# Altium schematic symbol library Fixed Inductors.SchLib: 4 symbols
Pins are listed as number, name and electrical type; pins without a type are passive.

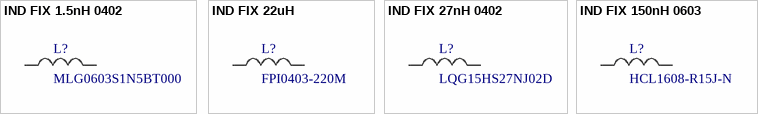
[diagram p0: symbols IND FIX 1.5nH 0402 to IND FIX 150nH 0603]

## IND FIX 1.5nH 0402
designator L?, comment MLG0603S1N5BT000
MLG Series 0201 1.5 nH 550 mA 150 mOhm Unshielded Multilayer Inductor; Manufacturer: TDK; Designed: Ferdi; Supplier 1: Mouser; Manufacturer Part Number: MLG0603S1N5BT000; RoHS: Yes; Category: Fixed Inductors; Stock 1: 14419; Pricing 1: 1=0,1, 10=0,066, 50=0,066, 100=0,045, 1000=0,029, 10000=0,025 (USD); ComponentLink1URL: https://product.tdk.com/info/en/catalog/datasheets/inductor_commercial_high-frequency_mlg0603s_en.pdf?ref_disty=digikey&src-supplier=Digi-Key; ComponentLink1Description: https://product.tdk.com/info/en/catalog/datasheets/inductor_commercial_high-frequency_mlg0603s_en.pdf?ref_disty=digikey&src-supplier=Digi-Key; Supplier Part Number 1: 810-MLG0603S1N5BT000
footprint L0402 (Inducatır 0402 Package)
pins: 1 A, 2 B

## IND FIX 22uH
designator L?, comment FPI0403-220M
INDUCTOR POWER 22UH 4.5X4X3.2MM SMD; Manufacturer: CORE MASTER; DC Resistance (DCR): 350m Ohms; Tolerance: ±20%; Current: 1A; Shielding: UNSHIELDED; Pitch: NONE; ComponentLink1Description: Datasheet; ComponentLink1URL: https://cdn.ozdisan.com/ETicaret_Dosya/487972_6039147.pdf; Packaging: TAPE&REEL; Rohs: ROHS; Applications: General Purpose; Dimensions (mm) LxWxH: 4.50x4.00x3.20; Inductance: 22uH; Technology: POWER; Package / Case: NONSTANDARD; Mounting Type: SMT; Series: FPI
footprint L4.5x4.0 (L x W)
pins: 1 A, 2 B

## IND FIX 27nH 0402
designator L?, comment LQG15HS27NJ02D
Inductor RF Chip Multi-Layer 27nH 5% 100MHz 8Q-Factor Air 300mA 460mOhm DCR 0402 Paper T/R; Manufacturer: Murata; Shielding: Unshielded; Self Resonant Frequency: 1.7GHz; Q Factor: 8; DC Resistance (DCR): 460mR; Designed: Ferdi; Supplier 1: Digi-Key; Manufacturer Part Number: LQG15HS27NJ02D; RoHS: Yes; Category: Fixed Inductors; Stock 1: 348265; Pricing 1: 1=0,1, 10=0,045, 25=0,0408, 50=0,0362, 100=0,0316, 250=0,03012, 500=0,02832, 1000=0,02169, 2500=0,02049 (USD); Mount: Surface Mount; Case/Package: 0402; Core Material: Air; Case Code (Metric): 1005; Case Code (Imperial): 0402; Min Operating Temperature: -55°C; Max Operating Temperature: 125°C; Package Quantity: 1; Current Rating: 300mA; Tolerance: 5%; Packaging: Tape and Reel; Inductance Tolerance: 5%; Inductance: 27nH; Test Frequency: 100MHz; Max DC Current: 300mA; Termination: SMD/SMT; DC Current: 300mA; Series: LQG15HS; Rated Current-Max: 300mA; Length: 1mm; Width: 0.02inch; Height: 0.5mm; Height - Seated (Max): 0.022inch; Depth: 0.55mm; Reach SVHC Compliant: No; Military Standard: Not; Lead Free: Lead Free; RoHS Compliant: Yes; ComponentLink1URL: https://datasheet.ciiva.com/11799/0900766b80f10809-11799242.pdf?src-supplier=Rs; ComponentLink1Description: https://datasheet.ciiva.com/11799/0900766b80f10809-11799242.pdf?src-supplier=Rs; ComponentLink2URL: https://datasheet.ciiva.com/1038/l0075s0083lqg15hs-1038146.pdf?src-supplier=Digi-Key; ComponentLink2Description: https://datasheet.ciiva.com/1038/l0075s0083lqg15hs-1038146.pdf?src-supplier=Digi-Key; ComponentLink3URL: https://datasheet.ciiva.com/1038/l0075s0083lqg15hs-1038145.pdf?src-supplier=Digi-Key; ComponentLink3Description: https://datasheet.ciiva.com/1038/l0075s0083lqg15hs-1038145.pdf?src-supplier=Digi-Key; ComponentLink4URL: https://datasheet.ciiva.com/1038/l0075s0083lqg15hs-1038147.pdf?src-supplier=Digi-Key; ComponentLink4Description: https://datasheet.ciiva.com/1038/l0075s0083lqg15hs-1038147.pdf?src-supplier=Digi-Key; ComponentLink5URL: https://datasheet.ciiva.com/3082/l0075s0083lqg15hs-3082179.pdf?src-supplier=Avnet; ComponentLink5Description: https://datasheet.ciiva.com/3082/l0075s0083lqg15hs-3082179.pdf?src-supplier=Avnet; ComponentLink6URL: https://datasheet.ciiva.com/16360/l0075s0083lqg15hs-16360143.pdf?src-supplier=Future+Electronics; ComponentLink6Description: https://datasheet.ciiva.com/16360/l0075s0083lqg15hs-16360143.pdf?src-supplier=Future+Electronics; Supplier Part Number 1: 490-2628-1-ND
footprint L0402 (Inducatır 0402 Package)
pins: 1 A, 2 B

## IND FIX 150nH 0603
designator L?, comment HCL1608-R15J-N
INDUCTOR FIXED 0603 150nH SMD; Manufacturer: CORE MASTER; Current: 25mA; DC Resistance (DCR): 1.7Ohms; Designed: Ferdi; Series: HCL; Package / Case: 0603 / (1608 Metric); Inductance: 150nH; ComponentLink1Description: DataSheet; ComponentLink1URL: https://cdn.ozdisan.com/ETicaret_Dosya/506825_4059196.pdf
footprint L0603 (Inducator 0603 Package)
pins: 1 A, 2 B